# EAGLE library part LDQ-M3604RI (library LDQ-M3604RI)
Check prices <https://pricing.snapeda.com/parts/LDQ-M3604RI/Lumex/view-part?ref=eda>
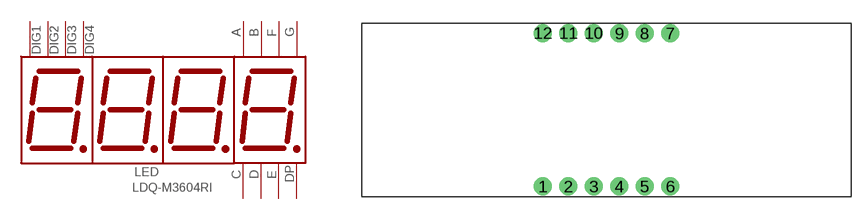
[diagram p0: symbol with the pads of LDQ-M3604RI; footprint LDQ-M3604RI]

Designator prefix LED

## LDQ-M3604RI (AVAILABILITY: In Stock; DESCRIPTION: Display, Seven Segment, 9.2MM, Red; MF: Lumex; MP: LDQ-M3604RI; PACKAGE: None; PRICE: None)  [LDQ-M3604RI]
1  E
2  D
3  DP
4  C
5  G
6  DIG4
7  B
8  DIG3
9  DIG2
10  F
11  A
12  DIG1

## Footprint LDQ-M3604RI (pad centres in mm)
drill 0.8 pad 1.778: 1 -6.35,-7.62; 2 -3.81,-7.62; 3 -1.27,-7.62; 4 1.27,-7.62; 5 3.81,-7.62; 6 6.35,-7.62; 7 6.35,7.62; 8 3.81,7.62; 9 1.27,7.62; 10 -1.27,7.62; 11 -3.81,7.62; 12 -6.35,7.62